# Altium schematic symbol library SRR1260-150M.SchLib: 2 symbols
Pins are listed as number, name and electrical type; pins without a type are passive.

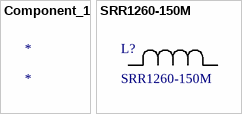
[diagram p0: symbols Component_1 to SRR1260-150M]

## Component_1
designator *

## SRR1260-150M
designator L?
15 µH Shielded Drum Core, Wirewound Inductor 5 A 27mOhm Max Nonstandard; Manufacturer_Name: Bourns Electronics; Copyright: Copyright (C) 2025 Ultra Librarian. All rights reserved.; Manufacturer_Part_Number: SRR1260-150M
footprint IND_BOURNS_SRR1260
pins: 1, 2